# EAGLE library part EG1271 (library xess)
Dual Slid Switch
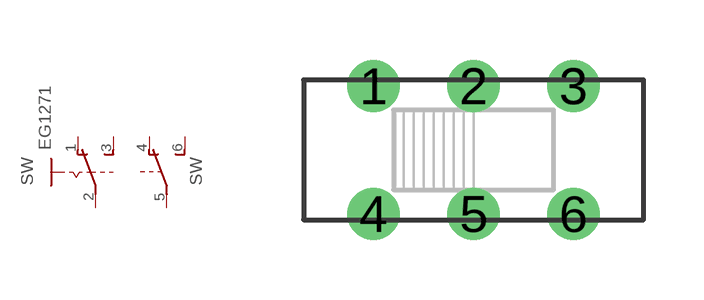
[diagram p63: symbol with the pads of EG1271; footprint EG1271]

Designator prefix SW; gates G$1=SLIDE_SWITCHA G$2=SLIDE_SWITCHB

## EG1271  [EG1271]
1  G$1:O  pas
2  G$1:P  pas
3  G$1:S  pas
4  G$2:O  pas
5  G$2:P  pas
6  G$2:S  pas

## Footprint EG1271 (pad centres in mm)
drill 0.8 round: 1 -2.5,1.6; 2 0,1.6; 3 2.5,1.6; 4 -2.5,-1.6; 5 0,-1.6; 6 2.5,-1.6